# Altium footprint library HIROSE DM3AT-SF-PEJM5.PCBLIB: 1 footprints
Each footprint in its own frame and in the unit in brackets; x right, y up, seen from the top. Pads: shape width x height; smd on the part's side, far side on the other; paste and mask are expansions set on the pad; w line width, h text height; cw(c..) or ccw(c..) is an arc to the next point about the centre after c.
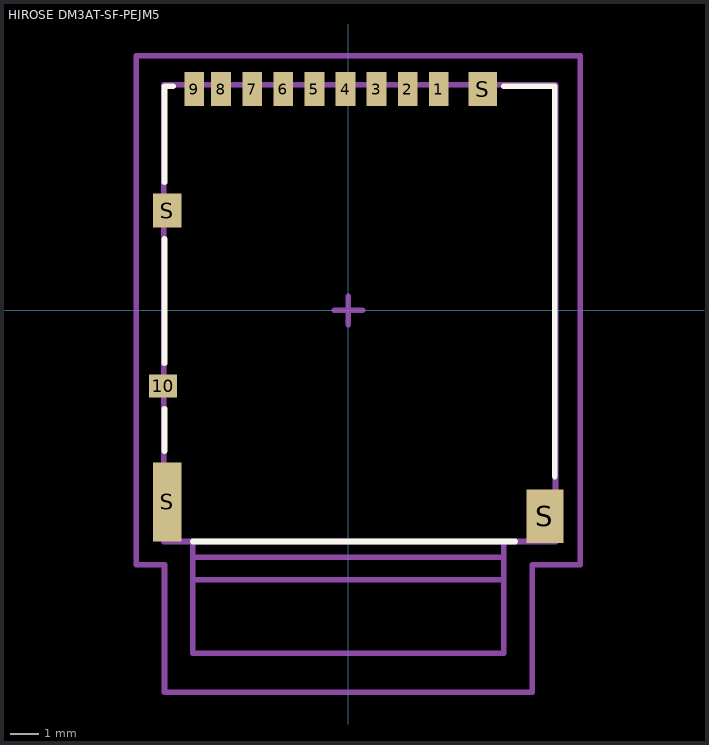
[diagram p0: the footprint, top view; thin cyan lines are the x and y axes]

## HIROSE DM3AT-SF-PEJM5 [mm]
height 1.68
pads (14):
  rect 0.7x1.2 smd: 1(3.2,7.825) 2(2.1,7.825) 3(1,7.825) 4(-0.1,7.825) 5(-1.2,7.825) 6(-2.3,7.825) 7(-3.4,7.825) 8(-4.5,7.825) 9(-5.45,7.825)
  rect 1x0.8 smd: 10(-6.55,-2.675)
  rect 1x2.8 smd: S(-6.4,-6.775)
  rect 1x1.2 smd: S(-6.4,3.525) S(4.75,7.825)
  rect 1.3x1.9 smd: S(6.95,-7.275)
Top Overlay:
  lines w0.2: -6.5,-4.975 -6.5,-3.475 ; -6.5,-1.875 -6.5,2.525 ; -6.5,4.525 -6.5,7.925 -6.2,7.925 ; -5.5,-8.175 5.9,-8.175 ; 5.5,7.925 7.3,7.925 7.3,-5.875
Mechanical 13:
  lines w0.2: -5.5,-8.725 5.5,-8.725 ; -5.5,-8.175 -5.5,-9.525 ; 5.5,-8.175 5.5,-9.525 ; -5.5,-9.525 5.5,-9.525 ; -5.5,-9.525 -5.5,-12.125 5.5,-12.125 5.5,-9.525 ; -6.525,-8.175 7.325,-8.175 7.325,7.975 -6.525,7.975 -6.525,-8.175
Mechanical 15:
  lines w0.2: -0.5,0 0.5,0 ; 0,-0.5 0,0.5 ; -7.5,-9 -7.5,-8.5 -7.5,9 8.2,9 8.2,-8 8.2,-9 6.5,-9 6.5,-13.5 -6.5,-13.5 -6.5,-9 -7.5,-9
3D body "Hirose DM3AT-SF-PEJM5.STEP": height 1.68, standoff 0, extent -6.525,-8.175 7.325,7.975